# Altium footprint library DO.PcbLib: 2 footprints
Each footprint in its own frame and in the unit in brackets; x right, y up, seen from the top. Pads: shape width x height; smd on the part's side, far side on the other; paste and mask are expansions set on the pad; w line width, h text height; cw(c..) or ccw(c..) is an arc to the next point about the centre after c.
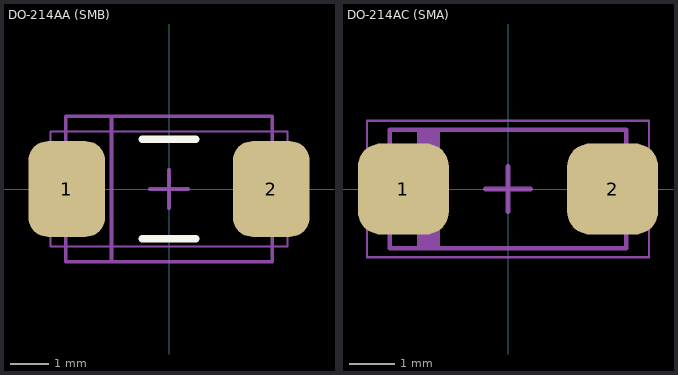
[diagram p0: the footprints below, top view; thin cyan lines are the x and y axes]

## DO-214AA (SMB) [mm] "Diode, 2-Leads, Body 4.30x2.60x1.50mm"
height 2.6
pads (2):
  rrect50% 2x2.5 smd: 1(-2.67,0) 2(2.67,0)
Top Overlay:
  lines w0.2: -0.7,-1.3 0.7,-1.3 ; -0.7,1.3 0.7,1.3
Mechanical 13:
  lines w0.1: -1.5,-1.9 -1.5,1.9 ; -2.7,-1.9 -2.7,1.9 2.7,1.9 2.7,-1.9 -2.7,-1.9
Mechanical 15:
  lines w0.05: -3.1,-1.5 -3.1,1.5 3.1,1.5 3.1,-1.5 -3.1,-1.5
  lines w0.1: -0.5,0 0.5,0 ; 0,-0.5 0,0.5
3D body: height 2.4, standoff 0.15, extent -2.65,-1.85 2.65,1.85

## DO-214AC (SMA) [mm] "Diode, 2-Leads, Body 4.30x2.60x1.50mm"
height 2.6
pads (2):
  rrect50% 2x2 smd: 1(-2.3,0) 2(2.3,0)
Mechanical 4:
  text ".Designator" at -1.7,-0.5 h1
Mechanical 13:
  rectangle: -2,-1.3 -1.5,1.3
  lines w0.1: -2.6,-1.3 -2.6,1.3 2.6,1.3 2.6,-1.3 -2.6,-1.3
Mechanical 15:
  lines w0.05: -3.1,-1.5 -3.1,1.5 3.1,1.5 3.1,-1.5 -3.1,-1.5
  lines w0.1: -0.5,0 0.5,0 ; 0,-0.5 0,0.5
3D body: height 2.5, standoff 0.1, extent -2.6,-1.3 2.6,1.3